# EAGLE library part XR22404 (library pepin)
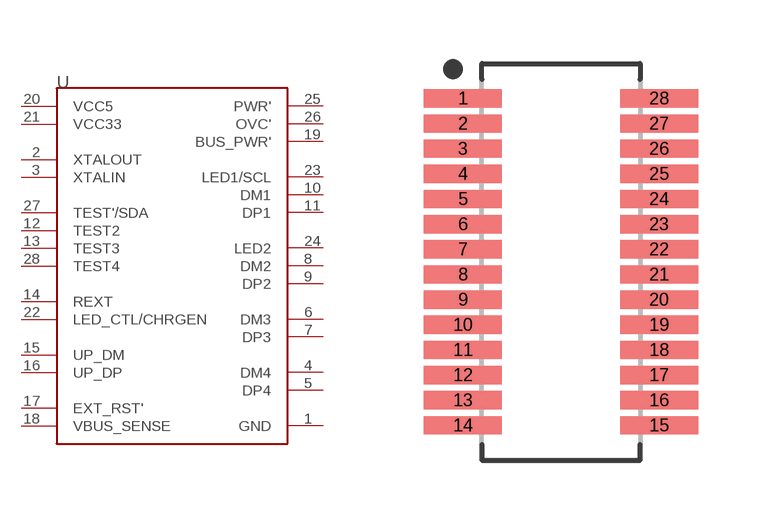
[diagram p12: symbol with the pads of SOP63P599X173-28; footprint SOP63P599X173-28]

Designator prefix U

## XR22404SSOP28  [SOP63P599X173-28]
1  GND  pwr
2  XTALOUT
3  XTALIN
4  DM4
5  DP4
6  DM3
7  DP3
8  DM2
9  DP2
10  DM1
11  DP1
12  TEST2
13  TEST3
14  REXT
15  UP_DM
16  UP_DP
17  EXT_RST'
18  VBUS_SENSE
19  BUS_PWR'
20  VCC5  pwr
21  VCC33
22  LED_CTL/CHRGEN
23  LED1/SCL
24  LED2
25  PWR'
26  OVC'
27  TEST'/SDA
28  TEST4

## Footprint SOP63P599X173-28 (pad centres in mm)
28-SOP, 0.64 mm pitch, 6.00 mm span, 9.90 X 3.90 X 1.73 mm body 28-pin SOP package with 0.64 mm pitch, 6.00 mm span with body size 9.90 X 3.90 X 1.73 mm
smd 1.968 x 0.462: 1 -2.473,4.128; 2 -2.473,3.493; 3 -2.473,2.857; 4 -2.473,2.223; 5 -2.473,1.587; 6 -2.473,0.953; 7 -2.473,0.318; 8 -2.473,-0.318; 9 -2.473,-0.953; 10 -2.473,-1.587; 11 -2.473,-2.223; 12 -2.473,-2.857; 13 -2.473,-3.493; 14 -2.473,-4.128; 15 2.473,-4.128; 16 2.473,-3.493; 17 2.473,-2.857; 18 2.473,-2.223; 19 2.473,-1.587; 20 2.473,-0.953; 21 2.473,-0.318; 22 2.473,0.318; 23 2.473,0.953; 24 2.473,1.587; 25 2.473,2.223; 26 2.473,2.857; 27 2.473,3.493; 28 2.473,4.128